# EAGLE library part SN65HVS882 (library isystems)
Texas Instruments INDUSTRIAL 8-DIGITAL-INPUT SERIALIZER Eight Inputs High Input Volate - up to 34V Selectable Debounce Filters - 0 ms to 3 ms Flexible Input Current Limit - 0.2mA to 5.2mA Field Pins Protected to 15kV HBM ESD Output Drivers for External Status LEDs Cascadeable in Multiples of Eight Inputs SPI-Compatible Interface Regulated 5V Output for External Isolator Over-Temperature Indicator
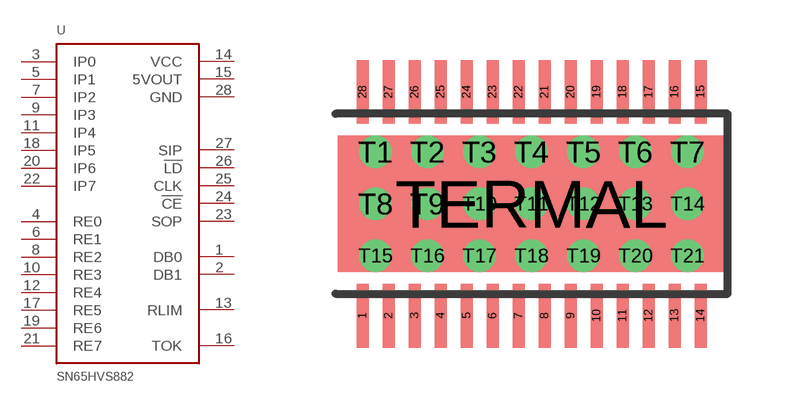
[diagram p40: symbol with the pads of HTSSOP-28; footprint HTSSOP-28]

Designator prefix -

## SN65HVS882  [HTSSOP-28]
1  DB0
2  DB1
3  IP0  in
4  RE0  out
5  IP1  in
6  RE1  out
7  IP2  in
8  RE2  out
9  IP3  in
10  RE3  out
11  IP4  in
12  RE4  out
13  RLIM  in
14  VCC  pwr
15  5VOUT  out
16  TOK  out
17  RE5  out
18  IP5  in
19  RE6  out
20  IP6  in
21  RE7  out
22  IP7  in
23  SOP  out
24  !CE  in
25  CLK  in
26  !LD  in
27  SIP  in
28  GND  pwr

## Footprint HTSSOP-28 (pad centres in mm)
Small Plastic Outline Package with Termal PAD TI PowerPAD R-PDSO-G28
smd 0.3 x 1.6: 1 -4.225,-2.8; 2 -3.575,-2.8; 3 -2.925,-2.8; 4 -2.275,-2.8; 5 -1.625,-2.8; 6 -0.975,-2.8; 7 -0.325,-2.8; 8 0.325,-2.8; 9 0.975,-2.8; 10 1.625,-2.8; 11 2.275,-2.8; 12 2.925,-2.8; 13 3.575,-2.8; 14 4.225,-2.8; 15 4.225,2.8; 16 3.575,2.8; 17 2.925,2.8; 18 2.275,2.8; 19 1.625,2.8; 20 0.975,2.8; 21 0.325,2.8; 22 -0.325,2.8; 23 -0.975,2.8; 24 -1.625,2.8; 25 -2.275,2.8; 26 -2.925,2.8; 27 -3.575,2.8; 28 -4.225,2.8
drill 0.3 pad 0.7: T1 -3.9,1.3; T2 -2.6,1.3; T3 -1.3,1.3; T4 0,1.3; T5 1.3,1.3; T6 2.6,1.3; T7 3.9,1.3; T8 -3.9,0; T9 -2.6,0; T10 -1.3,0; T11 0,0; T12 1.3,0; T13 2.6,0; T14 3.9,0; T15 -3.9,-1.3; T16 -2.6,-1.3; T17 -1.3,-1.3; T18 0,-1.3; T19 1.3,-1.3; T20 2.6,-1.3; T21 3.9,-1.3
smd 9.7 x 3.4: TERMAL 0,0